# EAGLE library part PCM1802DIS (library PCM1802SIM)
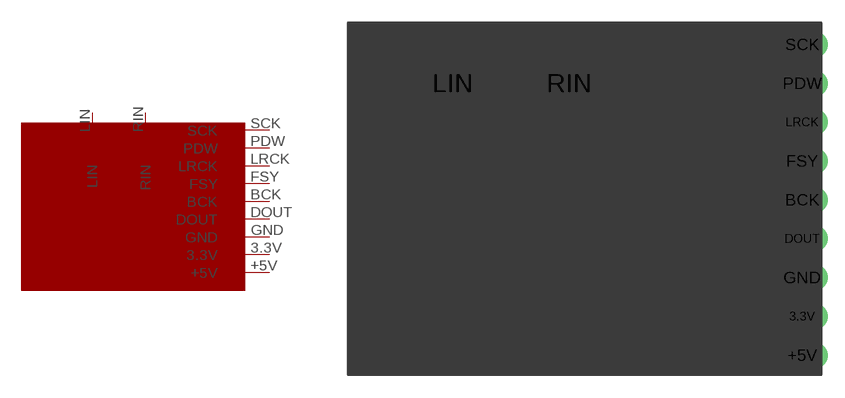
[diagram p0: symbol with the pads of PCM1802PC; footprint PCM1802PC]

Designator prefix -

## PCM1802DIS  [PCM1802PC]
3.3V  3.3V
+5V  +5V
BCK  BCK
DOUT  DOUT
FSY  FSY
GND  GND
LIN  LIN
LRCK  LRCK
PDW  PDW
RIN  RIN
SCK  SCK

## Footprint PCM1802PC (pad centres in mm)
drill 1.143 long: 3.3V 15.24,-8.89; +5V 15.24,-11.43; BCK 15.24,-1.27; DOUT 15.24,-3.81; FSY 15.24,1.27; GND 15.24,-6.35; LRCK 15.24,3.81; PDW 15.24,6.35; SCK 15.24,8.89
drill 2 long: LIN -7.62,6.35; RIN 0,6.35